# EAGLE library part BC40M (library BC40M-V0-lib2)
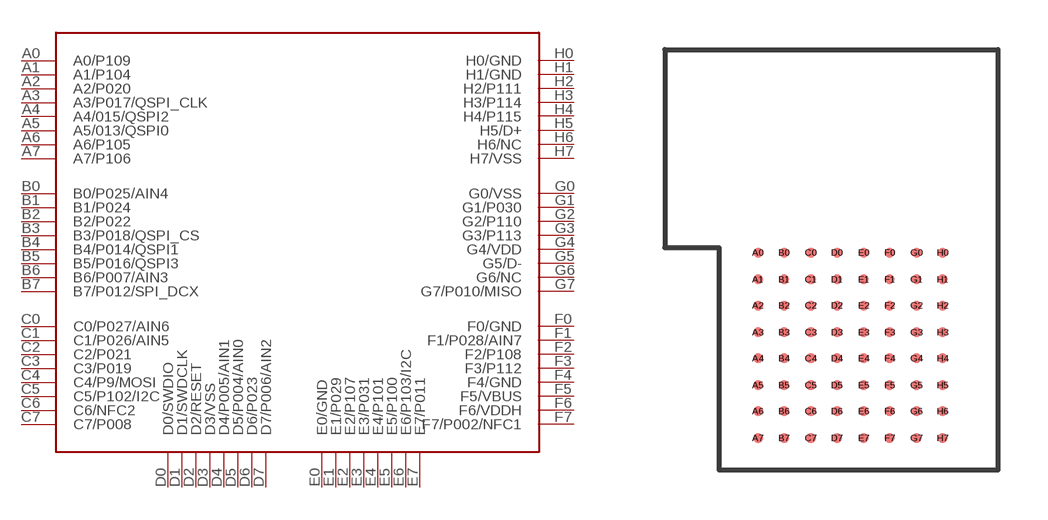
[diagram p0: symbol with the pads of BC40M; footprint BC40M]

Designator prefix -

## BC40M  [BC40M]
A0  A0/P109
A1  A1/P104
A2  A2/P020
A3  A3/P017/QSPI_CLK
A4  A4/015/QSPI2
A5  A5/013/QSPI0
A6  A6/P105
A7  A7/P106
B0  B0/P025/AIN4
B1  B1/P024
B2  B2/P022
B3  B3/P018/QSPI_CS
B4  B4/P014/QSPI1
B5  B5/P016/QSPI3
B6  B6/P007/AIN3
B7  B7/P012/SPI_DCX
C0  C0/P027/AIN6
C1  C1/P026/AIN5
C2  C2/P021
C3  C3/P019
C4  C4/P9/MOSI
C5  C5/P102/I2C
C6  C6/NFC2
C7  C7/P008
D0  D0/SWDIO
D1  D1/SWDCLK
D2  D2/RESET
D3  D3/VSS
D4  D4/P005/AIN1
D5  D5/P004/AIN0
D6  D6/P023
D7  D7/P006/AIN2
E0  E0/GND
E1  E1/P029
E2  E2/P107
E3  E3/P031
E4  E4/P101
E5  E5/P100
E6  E6/P103/I2C
E7  E7/P011
F0  F0/GND
F1  F1/P028/AIN7
F2  F2/P108
F3  F3/P112
F4  F4/GND
F5  F5/VBUS
F6  F6/VDDH
F7  F7/P002/NFC1
G0  G0/VSS
G1  G1/P030
G2  G2/P110
G3  G3/P113
G4  G4/VDD
G5  G5/D-
G6  G6/NC  nc
G7  G7/P010/MISO
H0  H0/GND
H1  H1/GND
H2  H2/P111
H3  H3/P114
H4  H4/P115
H5  H5/D+
H6  H6/NC  nc
H7  H7/VSS

## Footprint BC40M (pad centres in mm)
Original name BC840-MZ1-B2
smd 0.305 x 0.305: A0 1.168,6.579; A1 1.168,5.766; A2 1.168,4.978; A3 1.168,4.166; A4 1.168,3.378; A5 1.168,2.565; A6 1.168,1.778; A7 1.168,0.965; B0 1.956,6.579; B1 1.956,5.766; B2 1.956,4.978; B3 1.956,4.166; B4 1.956,3.378; B5 1.956,2.565; B6 1.956,1.778; B7 1.956,0.965; C0 2.769,6.579; C1 2.769,5.766; C2 2.769,4.978; C3 2.769,4.166; C4 2.769,3.378; C5 2.769,2.565; C6 2.769,1.778; C7 2.769,0.965; D0 3.556,6.579; D1 3.556,5.766; D2 3.556,4.978; D3 3.556,4.166; D4 3.556,3.378; D5 3.556,2.565; D6 3.556,1.778; D7 3.556,0.965; E0 4.369,6.579; E1 4.369,5.766; E2 4.369,4.978; E3 4.369,4.166; E4 4.369,3.378; E5 4.369,2.565; E6 4.369,1.778; E7 4.369,0.965; F0 5.156,6.579; F1 5.156,5.766; F2 5.156,4.978; F3 5.156,4.166; F4 5.156,3.378; F5 5.156,2.565; F6 5.156,1.778; F7 5.156,0.965; G0 5.969,6.579; G1 5.969,5.766; G2 5.969,4.978; G3 5.969,4.166; G4 5.969,3.378; G5 5.969,2.565; G6 5.969,1.778; G7 5.969,0.965; H0 6.756,6.579; H1 6.756,5.766; H2 6.756,4.978; H3 6.756,4.166; H4 6.756,3.378; H5 6.756,2.565; H6 6.756,1.778; H7 6.756,0.965